# Altium schematic symbol library Switch Push Botton.SchLib: 58 symbols
Pins are listed as number, name and electrical type; pins without a type are passive.

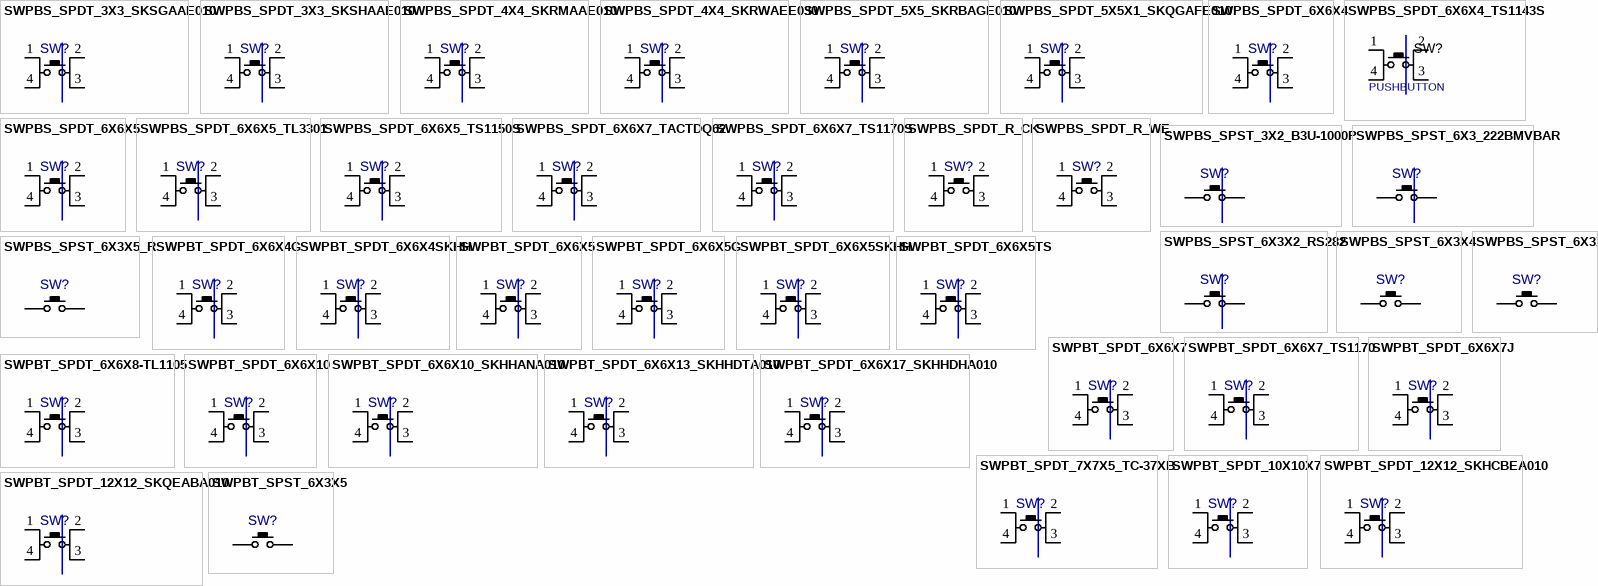
[diagram p0: symbols SWPBS_SPDT_3X3_SKSGAAE010 to SWPBT_SPST_6X3X5]

## SWPBS_SPDT_3X3_SKSGAAE010
designator SW?, comment PUSHBUTTON  (value not drawn)
SWITCH, PUSH BUTTON, TACTILE, SMD, SPDT, 3X3MM; MANF: ALPS; DESC: DESCRIPTION; MANF_P#: SKSGAAE010; VALUE: PUSHBUTTON; ASSEMBLY: ASSEMBLY; PARAM: PARAM; PRICE: 0.7$
footprint SWPBS_SPDT_3X3X1 (SWITCH, PUSHBUTTON, SMD, SPDT, 3.0x2.7mm, SKSG Series; Height 1.4 mm; 200,000 cycles; 4N force, SKSGAAE010)
pins: 1 P1, 2 P3, 3 P4, 4 P2

## SWPBS_SPDT_3X3_SKSHAAE010
designator SW?, comment PUSHBUTTON  (value not drawn)
SWITCH, PUSH BUTTON, TACTILE, SMD, SPDT, 3X3MM; MANF: ALPS; DESC: DESCRIPTION; MANF_P#: SKSHAAE010; VALUE: PUSHBUTTON; ASSEMBLY: ASSEMBLY; PARAM: PARAM; PRICE: PRICE
footprint SWPBS_SPDT_3X3 (SWITCH, PUSHBUTTON, SMD, SPDT, 3.3x2.9 mm, SKSH Series; Height 0.38mm ; 200,000 cycles ; 1.6N Force, SKSHAAE010)
pins: 1 P1, 2 P3, 3 P4, 4 P2

## SWPBS_SPDT_4X4_SKRMAAE010
designator SW?, comment PUSHBUTTON  (value not drawn)
SWITCH, PUSH BUTTON, TACTILE, SMD, SPDT, 4X4MM; MANF: ALPS; DESC: DESCRIPTION; MANF_P#: SKRMAAE010; VALUE: PUSHBUTTON; ASSEMBLY: ASSEMBLY; PARAM: PARAM; PRICE: PRICE
footprint SWPBS_SPDT_4X4SKRM (Footprint not found)
pins: 1 P1, 2 P3, 3 P4, 4 P2

## SWPBS_SPDT_4X4_SKRWAEE030
designator SW?, comment PUSHBUTTON  (value not drawn)
SWITCH, PUSH BUTTON, TACTILE, SMD, SPDT, 4X4MM; MANF: ALPS; DESC: DESCRIPTION; MANF_P#: SKRWAEE030; VALUE: PUSHBUTTON; ASSEMBLY: ASSEMBLY; PARAM: PARAM; PRICE: PRICE
footprint SWPBS_SPDT_4X4SKRW (SWITCH, PUSHBUTTON, SMD, SPDT, SKRW Series ; Height 0.35 mm ; 500,000 cycles ; 1.57N Force, SKRWAEE030)
pins: 1 P1, 2 P3, 3 P4, 4 P2

## SWPBS_SPDT_5X5_SKRBAGE010
designator SW?, comment PUSHBUTTON  (value not drawn)
SWITCH, PUSH BUTTON, TACTILE, SMD, SPDT, 5.0X5.0X0.55mm; MANF: ALPS; DESC: DESCRIPTION; MANF_P#: SKRBAGE010; VALUE: PUSHBUTTON; ASSEMBLY: ASSEMBLY; PARAM: PARAM; PRICE: PRICE
footprint SWPBS_SPDT_5X5_SKRB (SWITCH, PUSHBUTTON, SMD, SPDT, SKRB Series ; Height 0.55 mm ; 2,000,000 cycles ; 1.1N Force, SKRBAGE010)
pins: 1 P1, 2 P3, 3 P4, 4 P2

## SWPBS_SPDT_5X5X1_SKQGAFE010
designator SW?, comment PUSHBUTTON  (value not drawn)
SWITCH, PUSH BUTTON, TACTILE, SMD, SPDT, 5.0X5.0X1.5MM; MANF: ALPS; DESC: DESCRIPTION; MANF_P#: SKQGAFE010; VALUE: PUSHBUTTON; ASSEMBLY: ASSEMBLY; PARAM: PARAM; PRICE: PRICE
footprint SWPBS_SPDT_5X5X1 (SWITCH, PUSHBUTTON, SMD, SPDT, SKQG Series ; Height 1.5 mm ; 500,000 cycles ; 0.98N Force, SKQGAFE010)
pins: 1 P1, 2 P3, 3 P4, 4 P2

## SWPBS_SPDT_6X6X4
designator SW?, comment PUSHBUTTON  (value not drawn)
SWITCH, PUSH BUTTON, TACTILE, SMD, SPDT, 6X6X4.3mm; MANF: Bond-Tact; DESC: DESCRIPTION; MANF_P#: TS-1143S; VALUE: PUSHBUTTON; ASSEMBLY: ASSEMBLY; PARAM: PARAM; PRICE: PRICE
footprint SWPBS_SPDT_6X6X4 (SWITCH, PUSHBUTTON, SMD, SPDT, 6.5x6.5mm, 4.3mm, TS-1143S)
pins: 1 P1, 2 P3, 3 P4, 4 P2

## SWPBS_SPDT_6X6X4_TS1143S
designator SW?, comment PUSHBUTTON
SWITCH, PUSH BUTTON, TACTILE, SMD, SPDT, 6X6X4.3mm; MANF: Bond-Tact; MANF_P#: TS-1143-WP-300; VALUE: PUSHBUTTON
footprint SWPBS_SPDT_6X6X4 (SWITCH, PUSHBUTTON, SMD, SPDT, 6.5x6.5mm, 4.3mm, TS-1143S)
pins: 1 P1, 2 P3, 3 P4, 4 P2

## SWPBS_SPDT_6X6X5
designator SW?, comment PUSHBUTTON  (value not drawn)
SWITCH, PUSH BUTTON, TACTILE, SMD, SPDT, 6X6X5mm; DESC: DESCRIPTION; MANF: -; VALUE: PUSHBUTTON; ASSEMBLY: ASSEMBLY; PARAM: PARAM; PRICE: PRICE; MANF_P#: -
footprint SWPBS_SPDT_6X6X5 (SWITCH, PUSHBUTTON, SMD, SPDT, 6X6mm 4PIN)
pins: 1 P1, 2 P3, 3 P4, 4 P2

## SWPBS_SPDT_6X6X5_TL3301
designator SW?, comment PUSHBUTTON  (value not drawn)
SWITCH, PUSH BUTTON, TACTILE, SMD, SPDT, 6X6X5mm; MANF: ESWITCH; DESC: DESCRIPTION; MANF_P#: TL3301EF100QG; VALUE: PUSHBUTTON; ASSEMBLY: ASSEMBLY; PARAM: PARAM; PRICE: PRICE
footprint SWPBS_SPDT_6X6X5 (SWITCH, PUSHBUTTON, SMD, SPDT, 6X6mm 4PIN)
pins: 1 P1, 2 P3, 3 P4, 4 P2

## SWPBS_SPDT_6X6X5_TS1150S
designator SW?, comment PUSHBUTTON  (value not drawn)
SWITCH, PUSH BUTTON, TACTILE, SMD, SPDT, 4X4MM; MANF: Bond-Tact; DESC: DESCRIPTION; MANF_P#: TS-1150S; VALUE: PUSHBUTTON; ASSEMBLY: ASSEMBLY; PARAM: PARAM; PRICE: PRICE
footprint SWPBS_SPDT_6X6X5TS (SWITCH, PUSHBUTTON, SMD, SPDT, 6.5x6.5mm, 5.0mm, TS-1150S)
pins: 1 P1, 2 P3, 3 P4, 4 P2

## SWPBS_SPDT_6X6X7_TACTDQ62
designator SW?, comment PUSHBUTTON  (value not drawn)
SWITCH, PUSH BUTTON, TACTILE, SMD, SPDT, 6X6X7mm; DESC: DESCRIPTION; MANF_P#: TACTDQ62; MANF: -; VALUE: PUSHBUTTON; ASSEMBLY: ASSEMBLY; PARAM: PARAM; PRICE: PRICE
footprint SWPBS_SPDT_6X6X7 (SWITCH, PUSHBUTTON, SMD, SPDT, 6.2x6.2x7.3mm, TACTDQ62)
pins: 1 P1, 2 P3, 3 P4, 4 P2

## SWPBS_SPDT_6X6X7_TS1170S
designator SW?, comment PUSHBUTTON  (value not drawn)
SWITCH, PUSH BUTTON, TACTILE, SMD, SPDT, 6X6X7mm; MANF: Bond-Tact; DESC: DESCRIPTION; MANF_P#: TS-1170S; VALUE: PUSHBUTTON; ASSEMBLY: ASSEMBLY; PARAM: PARAM; PRICE: PRICE
footprint SWPBS_SPDT_6X6X7TS (SWITCH, PUSHBUTTON, SMD, SPDT, 7.0mm, TS-1170S)
pins: 1 P1, 2 P3, 3 P4, 4 P2

## SWPBS_SPDT_R_CK
designator SW?, comment PUSHBUTTON  (value not drawn)
SWITCH, PUSH BUTTON, TACTILE, THD, SPDT, RIGHT; MANF: C&K; PARAM: 50mA/32VDC; DESC: DESCRIPTION; MANF_P#: KMS221GLFS, KMS233GLFG; VALUE: PUSHBUTTON; ASSEMBLY: ASSEMBLY; PRICE: 0.3$
footprint SWPBS_SPDT_R_WE (SWITCH, PUSHBUTTON, SMD, SPDT, RIGHT)
pins: 1, 2, 3, 4

## SWPBS_SPDT_R_WE
designator SW?, comment PUSHBUTTON  (value not drawn)
SWITCH, PUSH BUTTON, TACTILE, THD, SPDT, RIGHT; MANF: WE; PARAM: 50mA/12VDC; DESC: DESCRIPTION; MANF_P#: 436331045822, 436351045816; VALUE: PUSHBUTTON; ASSEMBLY: ASSEMBLY; PRICE: 0.55$
footprint SWPBS_SPDT_R_WE (SWITCH, PUSHBUTTON, SMD, SPDT, RIGHT)
pins: 1, 2, 3, 4

## SWPBS_SPST_3X2_B3U-1000P
designator SW?, comment PUSHBUTTON  (value not drawn)
SWITCH, PUSH BUTTON, TACTILE, SMD, SPST, 3X2.5X1.2mm; MANF: OMRON; DESC: DESCRIPTION; MANF_P#: B3U-1000P; VALUE: PUSHBUTTON; ASSEMBLY: ASSEMBLY; PARAM: PARAM; PRICE: 1$
footprint SWPBS_SPST_3X2X1 (SWITCH, PUSHBUTTON, SMD, SPST, 3X2.5mm)
pins: 1 P1, 2 P3

## SWPBS_SPST_6X3_222BMVBAR
designator SW?, comment PUSHBUTTON  (value not drawn)
SWITCH, PUSH BUTTON, TACTILE, SMD, SPST, 6X3.5X5mm; MANF: CTS; DESC: DESCRIPTION; MANF_P#: 222BMVBAR; VALUE: PUSHBUTTON; ASSEMBLY: ASSEMBLY; PARAM: PARAM; PRICE: PRICE
footprint SWPBS_SPST_6X3X5 (SWITCH, PUSHBUTTON, SMD, SPST, 6X3.5mm, SKQMBBE010, 50000 Cycles, 1.57N Force)
pins: 1 P1, 2 P3

## SWPBS_SPST_6X3X2_RS282
designator SW?, comment PUSHBUTTON  (value not drawn)
SWITCH, PUSH BUTTON, TACTILE, SMD, SPST, 6X3.5X2.5mm; MANF: C&K; DESC: DESCRIPTION; MANF_P#: RS-282G05A3-SM RT; VALUE: PUSHBUTTON; ASSEMBLY: ASSEMBLY; PARAM: PARAM; PRICE: 0.8$
footprint SWPBS_SPST_6X3X2 (SWITCH, PUSHBUTTON, SMD, SPST, 6X3.5X2.5mm, RS-282G05A3, SKQYPA, 50000 Cycles)
pins: 1 P1, 2 P3

## SWPBS_SPST_6X3X4
designator SW?, comment PUSHBUTTON  (value not drawn)
SWITCH, PUSH BUTTON, TACTILE, SMD, SPST, 6X3.5X4.3mm; MANF: Panasonic; DESC: DESCRIPTION; MANF_P#: EVQ-PNF04M; VALUE: PUSHBUTTON; ASSEMBLY: ASSEMBLY; PARAM: PARAM; PRICE: PRICE
footprint SWPBS_SPST_6X3X5 (SWITCH, PUSHBUTTON, SMD, SPST, 6X3.5mm, SKQMBBE010, 50000 Cycles, 1.57N Force)
pins: 1 P1, 2 P3

## SWPBS_SPST_6X3X5
designator SW?, comment PUSHBUTTON  (value not drawn)
SWITCH, PUSH BUTTON, TACTILE, SMD, SPST, 6X3.5X5mm; MANF: ALPS; DESC: DESCRIPTION; MANF_P#: SKQMBBE010; VALUE: PUSHBUTTON; ASSEMBLY: ASSEMBLY; PARAM: PARAM; PRICE: PRICE
footprint SWPBS_SPST_6X3X5 (SWITCH, PUSHBUTTON, SMD, SPST, 6X3.5mm, SKQMBBE010, 50000 Cycles, 1.57N Force)
pins: 1 P1, 2 P3

## SWPBS_SPST_6X3X5_R
designator SW?, comment PUSHBUTTON  (value not drawn)
SWITCH, PUSH BUTTON, TACTILE, SMD, SPST, 6X3.5X5mm RIGHT; DESC: DESCRIPTION; MANF: -; VALUE: PUSHBUTTON; ASSEMBLY: ASSEMBLY; PARAM: PARAM; PRICE: PRICE; MANF_P#: -
footprint SWPBS_SPST_6X3X5_R (SWITCH, PUSHBUTTON, SMD, SPST, RIGHT)
pins: 1 P1, 2 P3

## SWPBT_SPDT_6X6X4G
designator SW?, comment PUSHBUTTON  (value not drawn)
SWITCH, PUSH BUTTON, TACTILE, THD, SPDT, 6X6X4MM; MANF: Grayhill; PARAM: 50mA/12VDC; DESC: DESCRIPTION; MANF_P#: 95C06A2T; VALUE: PUSHBUTTON; ASSEMBLY: ASSEMBLY; PRICE: 0.17$
footprint SWPBT_SPDT_6X6X4 (SWITCH, PUSHBUTTON, THD, SPDT, TS-1143)
pins: 1 P1, 2 P3, 3 P4, 4 P2

## SWPBT_SPDT_6X6X4SKHH
designator SW?, comment PUSHBUTTON  (value not drawn)
SWITCH, PUSH BUTTON, TACTILE, THD, SPDT, 6X6X4mm; MANF: ALPS; DESC: DESCRIPTION; MANF_P#: SKHHAJA010; VALUE: PUSHBUTTON; ASSEMBLY: ASSEMBLY; PARAM: PARAM; PRICE: PRICE
footprint SWPBT_SPDT_6X6X4SKHH (Vertical 6.0mm Square Type (Snap-in) SKHH Series; 4.3 mm Height ; 1,000,000 cycles ; 0.98N Force, SKHHAJA010)
pins: 1 P1, 2 P3, 3 P4, 4 P2

## SWPBT_SPDT_6X6X5
designator SW?, comment PUSHBUTTON  (value not drawn)
SWITCH, PUSH BUTTON, TACTILE, THD, SPDT, 4X4MM; DESC: DESCRIPTION; MANF: -; VALUE: PUSHBUTTON; ASSEMBLY: ASSEMBLY; PARAM: PARAM; PRICE: PRICE; MANF_P#: -
footprint SWPBT_SPDT_6X6X5 (TACTILE SWITCH 6X6mm 4PIN PBTHD500_4_S600)
pins: 1 P1, 2 P3, 3 P4, 4 P2

## SWPBT_SPDT_6X6X5G
designator SW?, comment PUSHBUTTON  (value not drawn)
SWITCH, PUSH BUTTON, TACTILE, THD, SPDT, 6X6X4MM; MANF: Grayhill; PARAM: 50mA/12VDC; DESC: DESCRIPTION; MANF_P#: 95C06B3T; VALUE: PUSHBUTTON; ASSEMBLY: ASSEMBLY; PRICE: 0.17$
footprint SWPBT_SPDT_6X6X5 (SWITCH, PUSHBUTTON, THD, SPDT, 6X6mm)
pins: 1 P1, 2 P3, 3 P4, 4 P2

## SWPBT_SPDT_6X6X5SKHH
designator SW?, comment PUSHBUTTON  (value not drawn)
SWITCH, PUSH BUTTON, TACTILE, THD, SPDT, 6X6X5mm; MANF: ALPS; DESC: DESCRIPTION; MANF_P#: SKHHAKA010; VALUE: PUSHBUTTON; ASSEMBLY: ASSEMBLY; PARAM: PARAM; PRICE: PRICE
footprint SWPBT_SPDT_6X6X5SKHH (SKHH Series; 5.0 mm Height ; 1,000,000 cycles ; 0.98N Force, SKHHAKA010)
pins: 1 P1, 2 P3, 3 P4, 4 P2

## SWPBT_SPDT_6X6X5TS
designator SW?, comment PUSHBUTTON  (value not drawn)
SWITCH, PUSH BUTTON, TACTILE, THD, SPDT, 6X6X5mm; MANF: Bond-TACT; DESC: DESCRIPTION; MANF_P#: TS-1150; VALUE: PUSHBUTTON; ASSEMBLY: ASSEMBLY; PARAM: PARAM; PRICE: PRICE
footprint SWPBT_SPDT_6X6X5TS (TS-1150)
pins: 1 P1, 2 P3, 3 P4, 4 P2

## SWPBT_SPDT_6X6X7
designator SW?, comment PUSHBUTTON  (value not drawn)
SWITCH, PUSH BUTTON, TACTILE, THD, SPDT, 6X6X7mm; MANF: ALPS; DESC: DESCRIPTION; MANF_P#: SKHHBVA010; VALUE: PUSHBUTTON; ASSEMBLY: ASSEMBLY; PARAM: PARAM; PRICE: PRICE
footprint SWPBT_SPDT_6X6X7 (Vertical 6.0mm Square Type (Snap-in) SKHH Series; 7.0 mm Height ; 1,000,000 cycles ; 0.98N Force, SKHHBVA010)
pins: 1 P1, 2 P3, 3 P4, 4 P2

## SWPBT_SPDT_6X6X7_TS1170
designator SW?, comment PUSHBUTTON  (value not drawn)
SWITCH, PUSH BUTTON, TACTILE, THD, SPDT, 6.5x6.5X7; MANF: Bond-TACT; DESC: DESCRIPTION; MANF_P#: TS-1170; VALUE: PUSHBUTTON; ASSEMBLY: ASSEMBLY; PARAM: PARAM; PRICE: PRICE
footprint SWPBT_SPDT_6X6X7TS (Bondtact sealed TH tact switch, TS-1170)
pins: 1 P1, 2 P3, 3 P4, 4 P2

## SWPBT_SPDT_6X6X7J
designator SW?, comment PUSHBUTTON  (value not drawn)
SWITCH, PUSH BUTTON, TACTILE, THD, SPDT, 6X6X7.3mm; MANF: ALPS; DESC: DESCRIPTION; MANF_P#: SKHHCWA010; VALUE: PUSHBUTTON; ASSEMBLY: ASSEMBLY; PARAM: PARAM; PRICE: PRICE
footprint SWPBT_SPDT_6X6X7J (Vertical 6.0mm Square Type (Snap-in) SKHH Series , Joint Stem type ; 7.3 mm Height ; 1,000,000 cycles ; 0.98N Force, SKHHCWA010)
pins: 1 P1, 2 P3, 3 P4, 4 P2

## SWPBT_SPDT_6X6X8-TL1105
designator SW?, comment PUSHBUTTON  (value not drawn)
SWITCH, PUSH BUTTON, TACTILE, THD, SPDT, 6X6X8mm; MANF: E-Switch; DESC: DESCRIPTION; MANF_P#: TL-1105-C-F160-Q; VALUE: PUSHBUTTON; ASSEMBLY: ASSEMBLY; PARAM: PARAM; PRICE: PRICE
footprint SWPBT_SPDT_6X6X8TL (E-Switch TL1105 series tact switch 8.0mm stem height, TL-1105-C)
pins: 1 P1, 2 P3, 3 P4, 4 P2

## SWPBT_SPDT_6X6X10
designator SW?, comment PUSHBUTTON  (value not drawn)
SWITCH, PUSH BUTTON, TACTILE, THD, SPDT, 6X6X10mm; DESC: DESCRIPTION; MANF: -; VALUE: PUSHBUTTON; ASSEMBLY: ASSEMBLY; PARAM: PARAM; PRICE: PRICE; MANF_P#: -
footprint SWPBT_SPDT_6X6X10
pins: 1 P1, 2 P3, 3 P4, 4 P2

## SWPBT_SPDT_6X6X10_SKHHANA010
designator SW?, comment PUSHBUTTON  (value not drawn)
SWITCH, PUSH BUTTON, TACTILE, THD, SPDT, 6X6X10mm; MANF: ALPS; DESC: DESCRIPTION; MANF_P#: SKHHANA010; VALUE: PUSHBUTTON; ASSEMBLY: ASSEMBLY; PARAM: PARAM; PRICE: PRICE
footprint SWPBT_SPDT_6X6X10SKHH (Vertical 6.0mm Square Type (Snap-in) SKHH Series; 9.5 mm Height ; 1,000,000 cycles ; 0.98N Force, SKHHANA010)
pins: 1 P1, 2 P3, 3 P4, 4 P2

## SWPBT_SPDT_6X6X13_SKHHDTA010
designator SW?, comment PUSHBUTTON  (value not drawn)
SWITCH, PUSH BUTTON, TACTILE, THD, SPDT, 6X6X13mm; MANF: ALPS; DESC: DESCRIPTION; MANF_P#: SKHHDTA010; VALUE: PUSHBUTTON; ASSEMBLY: ASSEMBLY; PARAM: PARAM; PRICE: PRICE
footprint SWPBT_SPDT_6X6X13SKHH (Vertical 6.0mm Square Type (Snap-in) SKHH Series; 13.0 mm Height ; 1,000,000 cycles ; 0.98N Force, SKHHDTA010)
pins: 1 P1, 2 P3, 3 P4, 4 P2

## SWPBT_SPDT_6X6X17_SKHHDHA010
designator SW?, comment PUSHBUTTON  (value not drawn)
SWITCH, PUSH BUTTON, TACTILE, THD, SPDT, 6X6X17mm; MANF: ALPS; DESC: DESCRIPTION; MANF_P#: SKHHDHA010; VALUE: PUSHBUTTON; ASSEMBLY: ASSEMBLY; PARAM: PARAM; PRICE: PRICE
footprint SWPBT_SPDT_6X6X17SKHH (Vertical 6.0mm Square Type (Snap-in) SKHH Series; 17.0 mm Height ; 500,000 cycles ; 0.98N Force, SKHHDHA010)
pins: 1 P1, 2 P3, 3 P4, 4 P2

## SWPBT_SPDT_7X7X5_TC-37XB
designator SW?, comment PUSHBUTTON  (value not drawn)
SWITCH, PUSH BUTTON, TACTILE, THD, SPDT, 7X7X5mm; MANF: Wealth Metal; DESC: DESCRIPTION; MANF_P#: TC-37XB; VALUE: PUSHBUTTON; ASSEMBLY: ASSEMBLY; PARAM: PARAM; PRICE: PRICE
footprint SWPBT_SPDT_7X7X5 (Wealth Metal sealed TH tact switch, 7.2X7.2mm, TC-37XB)
pins: 1 P1, 2 P3, 3 P4, 4 P2

## SWPBT_SPDT_10X10X7
designator SW?, comment PUSHBUTTON  (value not drawn)
SWITCH, PUSH BUTTON, TACTILE, THD, SPDT, 10X10X7mm; DESC: DESCRIPTION; MANF: -; VALUE: PUSHBUTTON; ASSEMBLY: ASSEMBLY; PARAM: PARAM; PRICE: PRICE; MANF_P#: -
footprint SWPBT_SPDT_10X10X7
pins: 1 P1, 2 P3, 3 P4, 4 P2

## SWPBT_SPDT_12X12_SKHCBEA010
designator SW?, comment PUSHBUTTON  (value not drawn)
SWITCH, PUSH BUTTON, TACTILE, THD, SPDT, 12X12X7.3mm; MANF: ALPS; DESC: DESCRIPTION; MANF_P#: SKHCBEA010; VALUE: PUSHBUTTON; ASSEMBLY: ASSEMBLY; PARAM: PARAM; PRICE: PRICE
footprint SWPBT_SPDT_12X12SKHC (Vertical 12mm Square Type (Snap-in) SKHC Series ; Height 7.3 mm ; 1,000,000 cycles ; 1.27N Force, SKHCBEA010)
pins: 1 P1, 2 P3, 3 P4, 4 P2

## SWPBT_SPDT_12X12_SKQEABA010
designator SW?, comment PUSHBUTTON  (value not drawn)
SWITCH, PUSH BUTTON, TACTILE, THD, SPDT, 12X12mm; MANF: ALPS; DESC: DESCRIPTION; MANF_P#: SKQEABA010; VALUE: PUSHBUTTON; ASSEMBLY: ASSEMBLY; PARAM: PARAM; PRICE: PRICE
footprint SWPBT_SPDT_12X12SKQE (Vertical 12mm Square Long-life Type (Snap-in) SKQE Series ; Height 4.3 mm ; 10,000,000 cycles ; 1.57N Force, SKQEABA010)
pins: 1 P1, 2 P3, 3 P4, 4 P2

## SWPBT_SPST_6X3X5
designator SW?, comment PUSHBUTTON  (value not drawn)
SWITCH, PUSH BUTTON, TACTILE, THD, SPST, 6X3.5X5mm; DESC: DESCRIPTION; MANF: -; VALUE: PUSHBUTTON; ASSEMBLY: ASSEMBLY; PARAM: PARAM; PRICE: PRICE; MANF_P#: -
footprint SWPBT_SPST_6X3X5 (TACTILE SWITCH 2PIN 6X3.5mm)
pins: 1, 2

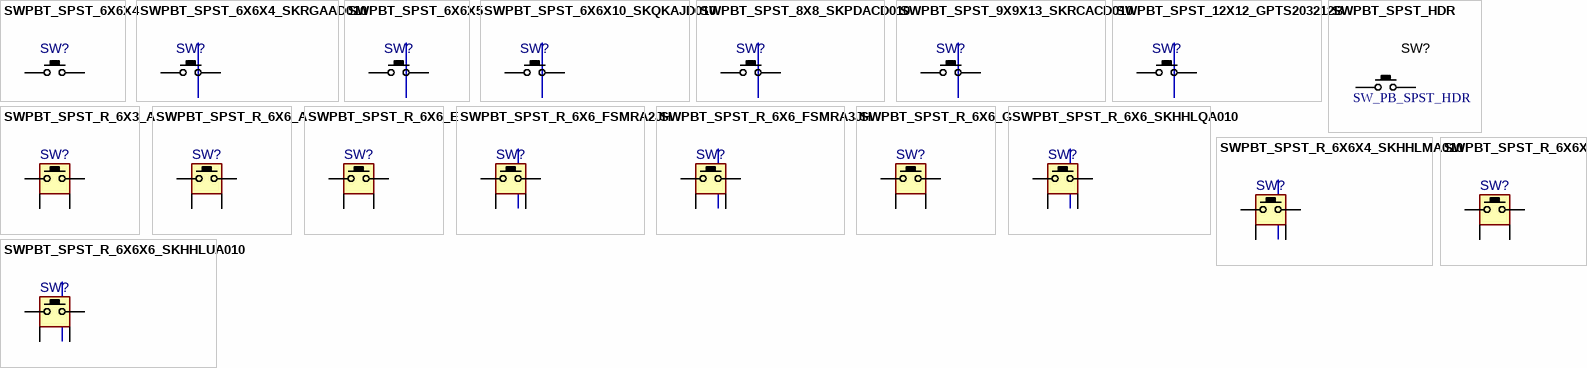
[diagram p1: symbols SWPBT_SPST_6X6X4 to SWPBT_SPST_R_6X6X10]

## SWPBT_SPST_6X6X4
designator SW?, comment PUSHBUTTON  (value not drawn)
SWITCH, PUSH BUTTON, TACTILE, THD, SPST, 6X6X4mm; DESC: DESCRIPTION; MANF: -; VALUE: PUSHBUTTON; ASSEMBLY: ASSEMBLY; PARAM: PARAM; PRICE: PRICE; MANF_P#: -
footprint SWPBT_SPST_6X6X4 (TACTILE SWITCH PUSH_B 6X6mm 2PIN)
pins: 1, 2

## SWPBT_SPST_6X6X4_SKRGAAD010
designator SW?, comment PUSHBUTTON  (value not drawn)
SWITCH, PUSH BUTTON, TACTILE, THD, SPST, 6X6X4mm CIRCLE; MANF: ALPS; DESC: DESCRIPTION; MANF_P#: SKRGAAD010; VALUE: PUSHBUTTON; ASSEMBLY: ASSEMBLY; PARAM: PARAM; PRICE: PRICE
footprint SWPBT_SPST_6X6X4C (Vertical 6.2 mm Diameter Round Terminal Type (Radial) SKRG Series ; Height 4.3 mm ; 500,000 cycles ; 1.27N Force, SKRGAAD010)
pins: 1, 2

## SWPBT_SPST_6X6X5
designator SW?, comment PUSHBUTTON  (value not drawn)
SWITCH, PUSH BUTTON, TACTILE, THD, SPST, 6X6X5mm; DESC: DESCRIPTION; MANF: -; VALUE: PUSHBUTTON; ASSEMBLY: ASSEMBLY; PARAM: PARAM; PRICE: PRICE; MANF_P#: -
footprint SWPBT_SPST_6X6X5
pins: 1, 2

## SWPBT_SPST_6X6X10_SKQKAJD010
designator SW?, comment PUSHBUTTON  (value not drawn)
SWITCH, PUSH BUTTON, TACTILE, THD, SPST, 6X6X10mm; MANF: ALPS; DESC: DESCRIPTION; MANF_P#: SKQKAJD010; VALUE: PUSHBUTTON; ASSEMBLY: ASSEMBLY; PARAM: PARAM; PRICE: PRICE
footprint SWPBT_SPST_6X6X10 (Vertical 6.6 mm Square Type (Radial) SKQK Series ; Height 9.5 mm ; 200,000 cycles ; 0.98N Force, SKQKAJD010)
pins: 1, 2

## SWPBT_SPST_8X8_SKPDACD010
designator SW?, comment PUSHBUTTON  (value not drawn)
SWITCH, PUSH BUTTON, TACTILE, THD, SPST, 8X8X5.5mm; MANF: ALPS; DESC: DESCRIPTION; MANF_P#: SKPDACD010; VALUE: PUSHBUTTON; ASSEMBLY: ASSEMBLY; PARAM: PARAM; PRICE: PRICE
footprint SWPBT_SPST_8X8 (Vertical 7.8 mm Square Type (Radial) SKPD Series; Height 5.5mm ; 100,000 cycles ; 2.45N Force, SKPDACD010)
pins: 1, 2

## SWPBT_SPST_9X9X13_SKRCACD010
designator SW?, comment PUSHBUTTON  (value not drawn)
SWITCH, PUSH BUTTON, TACTILE, THD, SPST, 9X9X13mm; MANF: ALPS; DESC: DESCRIPTION; MANF_P#: SKRCACD010; VALUE: PUSHBUTTON; ASSEMBLY: ASSEMBLY; PARAM: PARAM; PRICE: PRICE
footprint SWPBT_SPST_9X9X13 (Vertical 9.0 mm Diameter Water-proof Type with Round Terminals (Radial) SKRC Series ; Height 13 mm ; 100,000 cycles ; 1.57N Force, SKRCACD010)
pins: 1, 2

## SWPBT_SPST_12X12_GPTS203212B
designator SW?, comment PUSHBUTTON  (value not drawn)
SWITCH, PUSH BUTTON, TACTILE, THD, SPST, 12X12mm; DESC: DESCRIPTION; MANF_P#: GPTS203212B; MANF: -; VALUE: PUSHBUTTON; ASSEMBLY: ASSEMBLY; PARAM: PARAM; PRICE: PRICE
footprint SWPBT_SPST_R_12X12 (SWITCH, PUSHBUTTON, THD, SPST, GPTS203212B (CW) 12x12x9.1mm)
pins: 1, 2

## SWPBT_SPST_HDR
designator SW?, comment SW_PB_SPST_HDR  (mechanical)
Switch momentary SPST panel mount with wire leads; MANF: C&K Components; MANF_P#: AP4E200SWBE; VALUE: SW_PB_SPST_HDR
footprint HDR_M_1X3 (Connector; Header; 3 Position)
pins: 1, 2

## SWPBT_SPST_R_6X3_A
designator SW?, comment PUSHBUTTON  (value not drawn)
SWITCH, PUSH BUTTON, TACTILE, THD, SPST, RIGHT; MANF: Apem; PARAM: 50mA/12VDC/250VAC; DESC: DESCRIPTION; MANF_P#: MJTP1117; VALUE: PUSHBUTTON; ASSEMBLY: ASSEMBLY; PRICE: 0.45$
footprint SWPBT_SPST_R_6X3 (SWITCH, PUSHBUTTON, THD, SPST, 6X3mm;)
pins: 1, 2, MH1, MH2

## SWPBT_SPST_R_6X6_A
designator SW?, comment PUSHBUTTON  (value not drawn)
SWITCH, PUSH BUTTON, TACTILE, THD, SPST, RIGHT; MANF: Apem; PARAM: 50mA/12VDC; DESC: DESCRIPTION; MANF_P#: MJTP1236A, MJTP1236BV0; VALUE: PUSHBUTTON; ASSEMBLY: ASSEMBLY; PRICE: 0.3$
footprint SWPBT_SPST_R_6X6X4 (SWITCH, PUSHBUTTON, THD, SPST, 6X6X3.85 mm; 1,000,000 cycles ; 0.98N Force, SKHHLMA010)
pins: 1, 2, MH1, MH2

## SWPBT_SPST_R_6X6_E
designator SW?, comment PUSHBUTTON  (value not drawn)
SWITCH, PUSH BUTTON, TACTILE, THD, SPST, RIGHT; MANF: E-Switch; PARAM: 50mA/12VDC; DESC: DESCRIPTION; MANF_P#: TL1105SF250Q, TL1105WF100Q, TL1105SF100Q; VALUE: PUSHBUTTON; ASSEMBLY: ASSEMBLY; PRICE: 0.3$
footprint SWPBT_SPST_R_6X6X4 (SWITCH, PUSHBUTTON, THD, SPST, 6X6X3.85 mm; 1,000,000 cycles ; 0.98N Force, SKHHLMA010)
pins: 1, 2, MH1, MH2

## SWPBT_SPST_R_6X6_FSMRA2JH
designator SW?, comment PUSHBUTTON  (value not drawn)
SWITCH, PUSH BUTTON, TACTILE, THD, SPST, 6X6mm RIGHT; MANF: TE; PARAM: 50mA/24VDC; DESC: DESCRIPTION; MANF_P#: FSMRA2JH; VALUE: PUSHBUTTON; ASSEMBLY: ASSEMBLY; PRICE: 0.18$
footprint SWPBT_SPST_R_6X6 (TACTILE SWITCH PUSH_B 6X6mm 2PIN RIGHT ANGLE, FSMRA2JH, FSMRA3JH, SKHHLQA010)
pins: 1, 2, MH1, MH2

## SWPBT_SPST_R_6X6_FSMRA3JH
designator SW?, comment PUSHBUTTON  (value not drawn)
SWITCH, PUSH BUTTON, TACTILE, THD, SPST, 6X6mm RIGHT; MANF: TE; DESC: DESCRIPTION; MANF_P#: FSMRA3JH; VALUE: PUSHBUTTON; ASSEMBLY: ASSEMBLY; PARAM: PARAM; PRICE: 0.18$
footprint SWPBT_SPST_R_6X6 (TACTILE SWITCH PUSH_B 6X6mm 2PIN RIGHT ANGLE, FSMRA2JH, FSMRA3JH, SKHHLQA010)
pins: 1, 2, MH1, MH2

## SWPBT_SPST_R_6X6_G
designator SW?, comment PUSHBUTTON  (value not drawn)
SWITCH, PUSH BUTTON, TACTILE, THD, SPST, RIGHT; MANF: Grayhill; PARAM: 50mA/12VDC; DESC: DESCRIPTION; MANF_P#: 95C06A2RAT, 95C06A3RAT, 95C06C2RAT; VALUE: PUSHBUTTON; ASSEMBLY: ASSEMBLY; PRICE: 0.2$
footprint SWPBT_SPST_R_6X6X4 (SWITCH, PUSHBUTTON, THD, SPST, 6X6X3.85 mm; 1,000,000 cycles ; 0.98N Force, SKHHLMA010)
pins: 1, 2, MH1, MH2

## SWPBT_SPST_R_6X6_SKHHLQA010
designator SW?, comment PUSHBUTTON  (value not drawn)
SWITCH, PUSH BUTTON, TACTILE, THD, SPST, 6X6mm RIGHT; MANF: ALPS; DESC: DESCRIPTION; MANF_P#: SKHHLQA010; VALUE: PUSHBUTTON; ASSEMBLY: ASSEMBLY; PARAM: PARAM; PRICE: PRICE
footprint SWPBT_SPST_R_6X6 (TACTILE SWITCH PUSH_B 6X6mm 2PIN RIGHT ANGLE, FSMRA2JH, FSMRA3JH, SKHHLQA010)
pins: 1, 2, MH1, MH2

## SWPBT_SPST_R_6X6X4_SKHHLMA010
designator SW?, comment PUSHBUTTON  (value not drawn)
SWITCH, PUSH BUTTON, TACTILE, THD, SPST, 6X6X4mm RIGHT; MANF: ALPS; DESC: DESCRIPTION; MANF_P#: SKHHLMA010; VALUE: PUSHBUTTON; ASSEMBLY: ASSEMBLY; PARAM: PARAM; PRICE: PRICE
footprint SWPBT_SPST_R_6X6X4 (Horizontal 6.0mm Square Type (Snap-in) SKHH Series; Stem length 3.85 mm ; 1,000,000 cycles ; 0.98N Force, SKHHLMA010)
pins: 1, 2, MH1, MH2

## SWPBT_SPST_R_6X6X6_SKHHLUA010
designator SW?, comment PUSHBUTTON  (value not drawn)
SWITCH, PUSH BUTTON, TACTILE, THD, SPST, 6X6X6mm RIGHT; MANF: ALPS; DESC: DESCRIPTION; MANF_P#: SKHHLUA010; VALUE: PUSHBUTTON; ASSEMBLY: ASSEMBLY; PARAM: PARAM; PRICE: PRICE
footprint SWPBT_SPST_R_6X6X6 (Horizontal 6.0mm Square Type (Snap-in) SKHH Series; Stem length 5.85 mm ; 1,000,000 cycles ; 0.98N Force, SKHHLUA010)
pins: 1, 2, MH1, MH2

## SWPBT_SPST_R_6X6X10
designator SW?, comment PUSHBUTTON  (value not drawn)
SWITCH, PUSH BUTTON, TACTILE, THD, SPST, RIGHT; PARAM: 50mA/12VDC; DESC: DESCRIPTION; MANF: -; VALUE: PUSHBUTTON; ASSEMBLY: ASSEMBLY; PRICE: 0.3$; MANF_P#: -
footprint SWPBT_SPST_R_6X6X10 (SWITCH, PUSHBUTTON, THD, SPST, 6X6mm, RIGHT ANGLE)
pins: 1, 2, MH1, MH2